# Altium schematic symbol library MySchLib.SchLib: 9 symbols
Pins are listed as number, name and electrical type; pins without a type are passive.

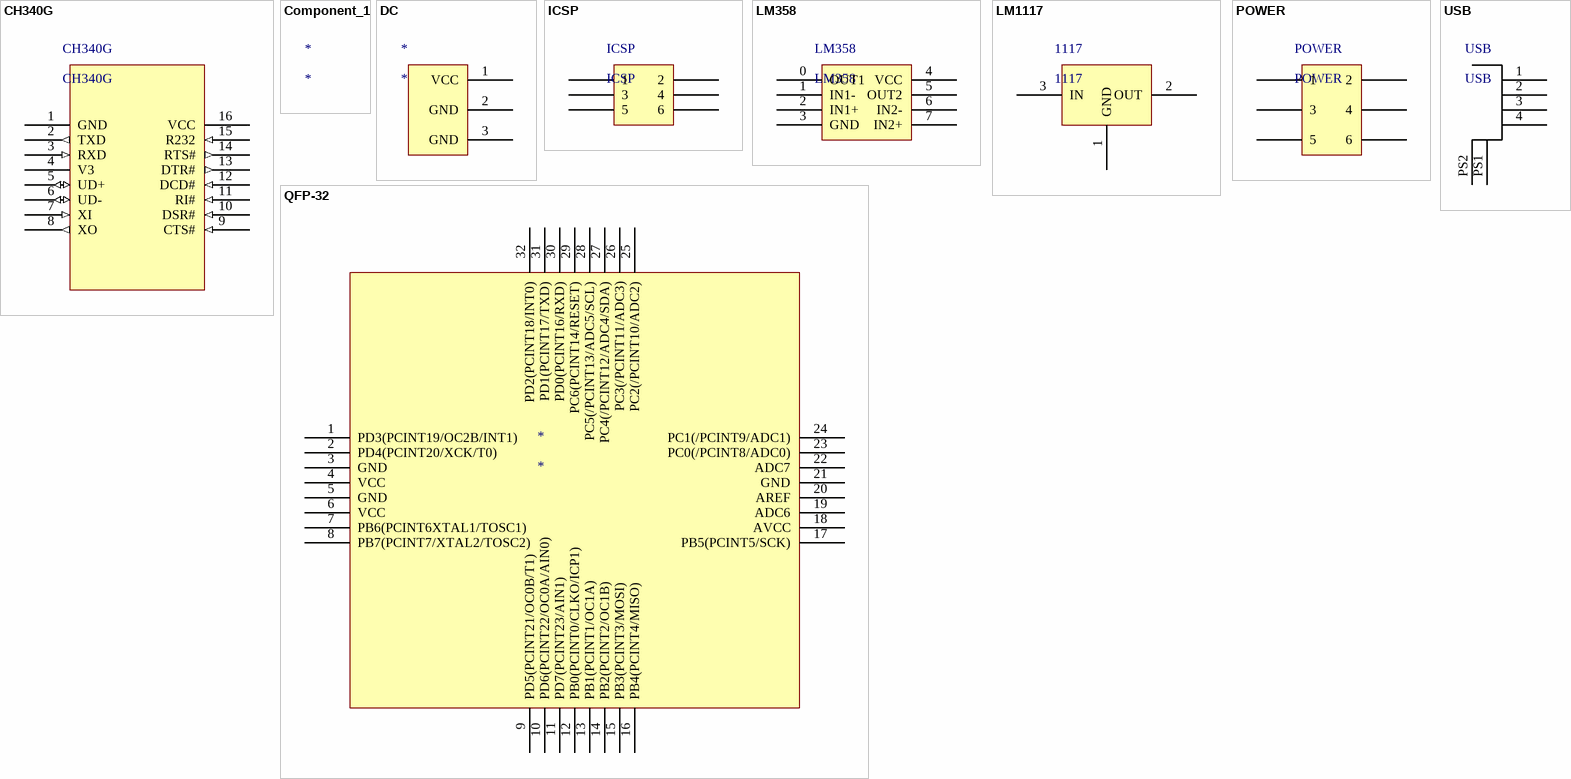
[diagram p0: symbols CH340G to USB]

## CH340G
designator CH340G
pins: 1 GND (power), 2 TXD (out), 3 RXD (in), 4 V3 (power), 5 UD+ (io), 6 UD- (io), 7 XI (in), 8 XO (out), 9 CTS# (in), 10 DSR# (in), 11 RI# (in), 12 DCD# (in), 13 DTR# (out), 14 RTS# (out), 15 R232 (in), 16 VCC (power)

## Component_1
designator *

## DC
designator *
pins: 1 VCC, 2 GND, 3 GND

## ICSP
designator ICSP
pins: 1, 2, 3, 4, 5, 6

## LM358
designator LM358
pins: 0 OUT1, 1 IN1-, 2 IN1+, 3 GND, 4 VCC, 5 OUT2, 6 IN2-, 7 IN2+

## LM1117
designator 1117, comment 1117
pins: 1 GND, 2 OUT, 3 IN

## POWER
designator POWER
pins: 1, 2, 3, 4, 5, 6

## QFP-32
designator *
pins: 1 PD3(PCINT19/OC2B/INT1), 2 PD4(PCINT20/XCK/T0), 3 GND, 4 VCC, 5 GND, 6 VCC, 7 PB6(PCINT6XTAL1/TOSC1), 8 PB7(PCINT7/XTAL2/TOSC2), 9 PD5(PCINT21/OC0B/T1), 10 PD6(PCINT22/OC0A/AIN0), 11 PD7(PCINT23/AIN1), 12 PB0(PCINT0/CLKO/ICP1), 13 PB1(PCINT1/OC1A), 14 PB2(PCINT2/OC1B), 15 PB3(PCINT3/MOSI), 16 PB4(PCINT4/MISO), 17 PB5(PCINT5/SCK), 18 AVCC, 19 ADC6, 20 AREF, 21 GND, 22 ADC7, 23 PC0(/PCINT8/ADC0), 24 PC1(/PCINT9/ADC1), 25 PC2(/PCINT10/ADC2), 26 PC3(/PCINT11/ADC3), 27 PC4(/PCINT12/ADC4/SDA), 28 PC5(/PCINT13/ADC5/SCL), 29 PC6(PCINT14/RESET), 30 PD0(PCINT16/RXD), 31 PD1(PCINT17/TXD), 32 PD2(PCINT18/INT0)

## USB
designator USB
pins: 1, 2, 3, 4, PS1, PS2